# Altium footprint library FMSA.PcbLib: 1 footprints
Each footprint in its own frame and in the unit in brackets; x right, y up, seen from the top. Pads: shape width x height; smd on the part's side, far side on the other; paste and mask are expansions set on the pad; w line width, h text height; cw(c..) or ccw(c..) is an arc to the next point about the centre after c.
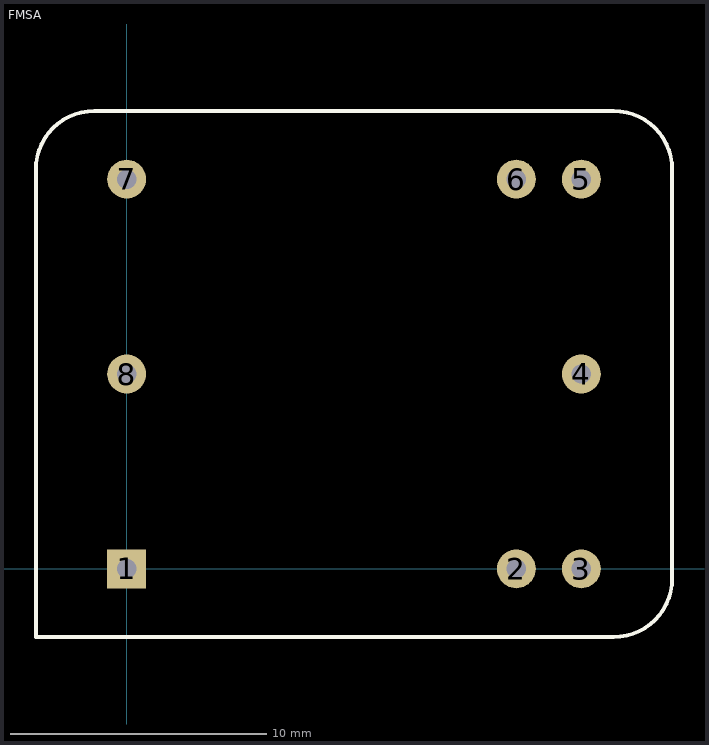
[diagram p0: the footprint, top view; thin cyan lines are the x and y axes]

## FMSA [mil]
pads (8):
  rect 60x60 hole 30: 1(0,0)
  round 60 hole 30: 2(600,0) 3(700,0) 4(700,300) 5(700,600) 6(600,600) 7(0,600) 8(0,300)
TopOverlay:
  lines w6: -140,-105 -140,615 cw(c-50,615) -50,705 750,705 cw(c750,615) 840,615 840,-15 cw(c750,-15) 750,-105 -140,-105